# Altium integrated library mems.IntLib: 11 symbols
Pins are listed as number, name and electrical type; pins without a type are passive.

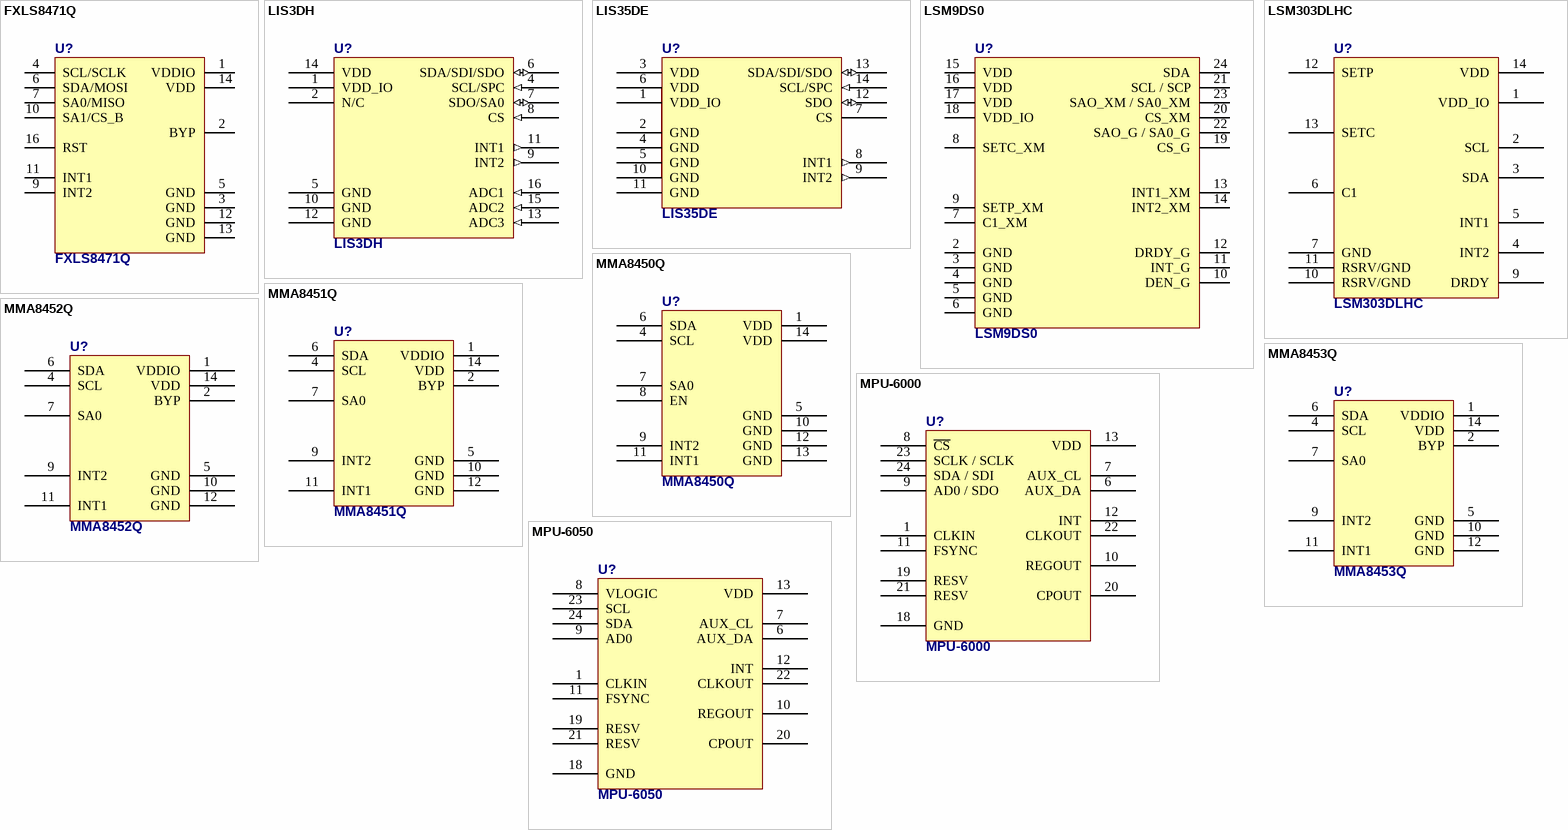
[diagram p0: symbols FXLS8471Q to MPU-6050]

## FXLS8471Q
designator U?
14-bit, 3-Axis,  Linear Accelerometer
footprint QFN16_PITCH_0_5MM (QFN; 16 Leads; Body 3 x 3 x 1mm; Pitch 0.5 mm;)
pins: 1 VDDIO, 2 BYP, 3 GND, 4 SCL/SCLK, 5 GND, 6 SDA/MOSI, 7 SA0/MISO, 9 INT2, 10 SA1/CS_B, 11 INT1, 12 GND, 13 GND, 14 VDD, 16 RST

## LIS3DH
designator U?
MEMS Digital, Ultra Low-Power High Performance 3-axes "Nano" Accelerometer
footprint LGA50P300X300-14N
footprint LGA-16 (QFN; 16 Leads; Body 3 x 3 x 1mm; Pitch 0.5 mm;)
pins: 1 VDD_IO (power) "Power supply for I/O pins", 2 N/C (power) "Power supply for I/O pins", 4 SCL/SPC (in) "I2C serial clock (SCL); SPI serial port clock (SPC)", 5 GND, 6 SDA/SDI/SDO (io) "I2C serial data (SDA); SPI serial data input (SDI); 3-wire interface serial data output (SDO)", 7 SDO/SA0 (io) "SPI serial data output (SDO); I2C less significant bit of the device address (SA0)", 8 CS (in) "SPI enable; I2C/SPI mode selection (1: I2C mode; 0: SPI enabled)", 9 INT2 (out) "Inertial interrupt 2", 10 GND "Connect to GND", 11 INT1 (out) "Inertial interrupt 1", 12 GND, 13 ADC3 (in) "Analog to digital converter input 3", 14 VDD (power) "Power supply", 15 ADC2 (in) "Analog to digital converter input 2", 16 ADC1 (in) "Analog to digital converter input 1"

## LIS35DE
designator U?
MEMS 3-axis 2/8g Smart Digital Output "Piccolo" Accelerometer
footprint LGA80P500X300-14N (LGA, 14-Leads, Body 3x5x0.92mm, Pitch 0.8mm, IPC Medium Density)
pins: 1 VDD_IO (power) "Power supply for I/O pins", 2 GND "0V supply", 3 VDD "Reserved, Connect to VDD", 4 GND "0V supply", 5 GND "0V supply", 6 VDD (power) "Power supply", 7 CS "SPI enable; I2C/SPI mode selection (1: I2C mode; 0: SPI enabled)", 8 INT1 (out) "Inertial interrupt 1", 9 INT2 (out) "Inertial interrupt 2", 10 GND "0V supply", 11 GND "Reserved, Connect to GND", 12 SDO (io) "SPI serial data output; I2C less significant bit of the device address", 13 SDA/SDI/SDO (io) "I2C serial data (SDA); SPI serial data input (SDI); 3-wire interface serial data output (SDO)", 14 SCL/SPC (in) "I2C serial clock (SCL); SPI serial port clock (SPC)"

## LSM9DS0
designator U?
iNEMO inertial module: 3D accelerometer, 3D gyroscope, 3D magnetometer
footprint QFN50P400X400X107-24N (QFN, 24-Leads, Body 4,00x4,00mm, Pitch 0,50mm, IPC Medium Density)
pins: 1 NC hidden, 2 GND, 3 GND, 4 GND, 5 GND, 6 GND, 7 C1_XM, 8 SETC_XM, 9 SETP_XM, 10 DEN_G, 11 INT_G, 12 DRDY_G, 13 INT1_XM, 14 INT2_XM, 15 VDD, 16 VDD, 17 VDD, 18 VDD_IO, 19 CS_G, 20 CS_XM, 21 SCL / SCP, 22 SAO_G / SA0_G, 23 SAO_XM / SA0_XM, 24 SDA

## LSM303DLHC
designator U?
Ultra compact high performance e-compass 3D accelerometer and  3D magnetometer module
footprint LGA80P500X300-14N (LGA, 14-Leads, Body 3x5x0.92mm, Pitch 0.8mm, IPC Medium Density)
pins: 1 VDD_IO, 2 SCL, 3 SDA, 4 INT2, 5 INT1, 6 C1, 7 GND, 8 NC hidden, 9 DRDY, 10 RSRV/GND, 11 RSRV/GND, 12 SETP, 13 SETC, 14 VDD

## MMA8450Q
designator U?
3-Axis,  8-bit/12-bit  Digital Accelerometer; FarnellOrderCodes: 1858712; 1858712RL
footprint QFN16 (QFN; 16 Leads; Body 3 x 3 x 1mm; Pitch 0.5 mm;)
pins: 1 VDD (power), 2 NC hidden, 3 NC hidden, 4 SCL, 5 GND (power), 6 SDA, 7 SA0, 8 EN, 9 INT2, 10 GND, 11 INT1, 12 GND (power), 13 GND (power), 14 VDD (power), 15 NC hidden, 16 NC hidden

## MMA8451Q
designator U?
Xtrinsic 3-Axis,  14-bit/8-bit Digital Accelerometer; FarnellOrderCodes: 2238134; 1842359
footprint QFN16 (QFN; 16 Leads; Body 3 x 3 x 1mm; Pitch 0.5 mm;)
pins: 1 VDDIO (power), 2 BYP, 3 NC hidden, 4 SCL, 5 GND (power), 6 SDA, 7 SA0, 8 NC hidden, 9 INT2, 10 GND, 11 INT1, 12 GND (power), 13 NC hidden, 14 VDD (power), 15 NC hidden, 16 NC hidden

## MMA8452Q
designator U?
Xtrinsic 3-Axis,  12-bit/8-bit Digital Accelerometer; FarnellOrderCodes: 1842360; 1908022
footprint QFN16 (QFN; 16 Leads; Body 3 x 3 x 1mm; Pitch 0.5 mm;)
pins: 1 VDDIO (power), 2 BYP, 3 NC hidden, 4 SCL, 5 GND (power), 6 SDA, 7 SA0, 8 NC hidden, 9 INT2, 10 GND, 11 INT1, 12 GND (power), 13 NC hidden, 14 VDD (power), 15 NC hidden, 16 NC hidden

## MMA8453Q
designator U?
Xtrinsic 3-Axis,  10-bit/8-bit Digital Accelerometer; FarnellOrderCodes: 2238136; 1842361
footprint QFN16 (QFN; 16 Leads; Body 3 x 3 x 1mm; Pitch 0.5 mm;)
pins: 1 VDDIO (power), 2 BYP, 3 NC hidden, 4 SCL, 5 GND (power), 6 SDA, 7 SA0, 8 NC hidden, 9 INT2, 10 GND, 11 INT1, 12 GND (power), 13 NC hidden, 14 VDD (power), 15 NC hidden, 16 NC hidden

## MPU-6000
designator U?
InvenSense 6-axis MotionTracking (3-axis Gyro, 3-axis Acc + Digital Motion Processor) with I2C/SPI Bus
footprint QFN50P400X400X90-24N (QFN, 24-Leads, Body 4,1x4,1mm (max), Pitch 0,50mm, IPC Medium Density)
pins: 1 CLKIN, 6 AUX_DA, 7 AUX_CL, 8 ~{CS}, 9 AD0 / SDO, 10 REGOUT, 11 FSYNC, 12 INT, 13 VDD, 18 GND, 19 RESV, 20 CPOUT, 21 RESV, 22 CLKOUT, 23 SCLK / SCLK, 24 SDA / SDI

## MPU-6050
designator U?
InvenSense 6-axis MotionTracking (3-axis Gyro, 3-axis Acc + Digital Motion Processor) with I2C Bus
footprint QFN50P400X400X90-24N (QFN, 24-Leads, Body 4,1x4,1mm (max), Pitch 0,50mm, IPC Medium Density)
pins: 1 CLKIN, 6 AUX_DA, 7 AUX_CL, 8 VLOGIC, 9 AD0, 10 REGOUT, 11 FSYNC, 12 INT, 13 VDD, 18 GND, 19 RESV, 20 CPOUT, 21 RESV, 22 CLKOUT, 23 SCL, 24 SDA